# EAGLE library part PTA-06 (library con-phoenix-350)
PTA 1,5/ XX-3,5
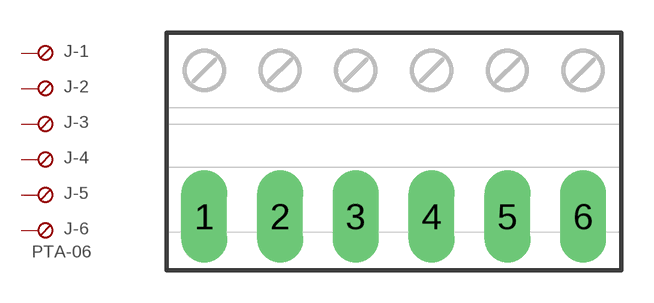
[diagram p8: symbol with the pads of PTA-06; footprint PTA-06]

Designator prefix J; gates -1=SKB -2=SKB -3=SKB -4=SKB -5=SKB -6=SKBU+V

## PTA-06  [PTA-06]
1  -1:S  pas
2  -2:S  pas
3  -3:S  pas
4  -4:S  pas
5  -5:S  pas
6  -6:S  pas

## Footprint PTA-06 (pad centres in mm)
PTA 1,5/ 6-3,5
drill 1.422 long: 1 -8.75,0; 2 -5.25,0; 3 -1.75,0; 4 1.75,0; 5 5.25,0; 6 8.75,0